# Altium footprint library SOTFL35P100X50-6N.PcbLib: 1 footprints
Each footprint in its own frame and in the unit in brackets; x right, y up, seen from the top. Pads: shape width x height; smd on the part's side, far side on the other; paste and mask are expansions set on the pad; w line width, h text height; cw(c..) or ccw(c..) is an arc to the next point about the centre after c.
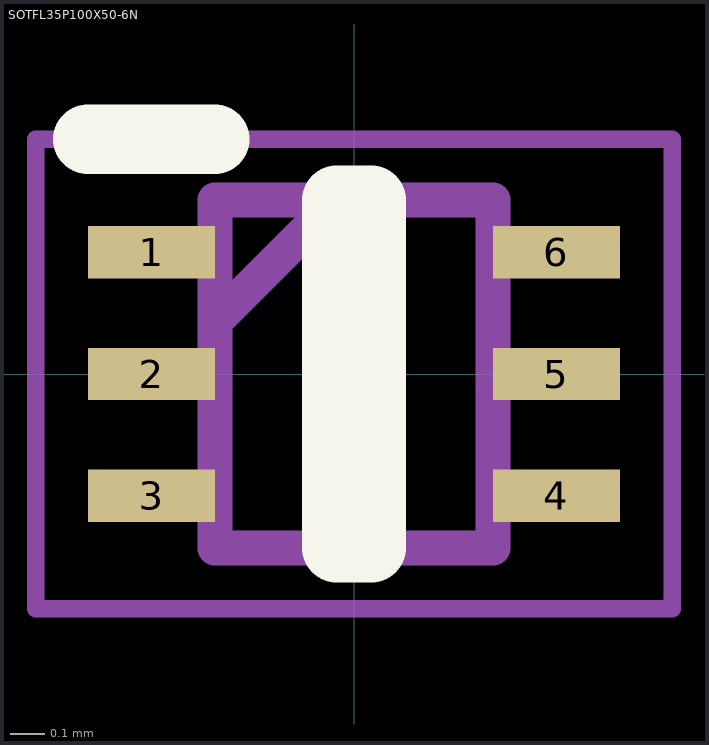
[diagram p0: the footprint, top view; thin cyan lines are the x and y axes]

## SOTFL35P100X50-6N [mm]
pads (6):
  rect 0.365x0.15 smd mask+0.051: 1(-0.582,0.35) 2(-0.582,0) 3(-0.582,-0.35) 4(0.582,-0.35) 5(0.582,0) 6(0.582,0.35)
Top Overlay:
  lines w0.2: -0.765,0.675 -0.4,0.675 ; -0.05,-0.5 -0.05,0.5 0.05,0.5 0.05,-0.5 -0.05,-0.5
Mechanical 15:
  lines w0.1: -0.4,0.15 -0.05,0.5 ; -0.4,-0.5 -0.4,0.5 0.4,0.5 0.4,-0.5 -0.4,-0.5
Mechanical 20:
  lines w0.05: -0.915,-0.675 -0.915,0.675 0.915,0.675 0.915,-0.675 -0.915,-0.675
3D body "DMC2990UDJ-7.stp": height 0.5, standoff 0, extent -0.5,-0.5 0.5,0.5